# Altium schematic symbol library KSZ8463FRLI.Schlib: 1 symbol
Pins are listed as number, name and electrical type; pins without a type are passive.

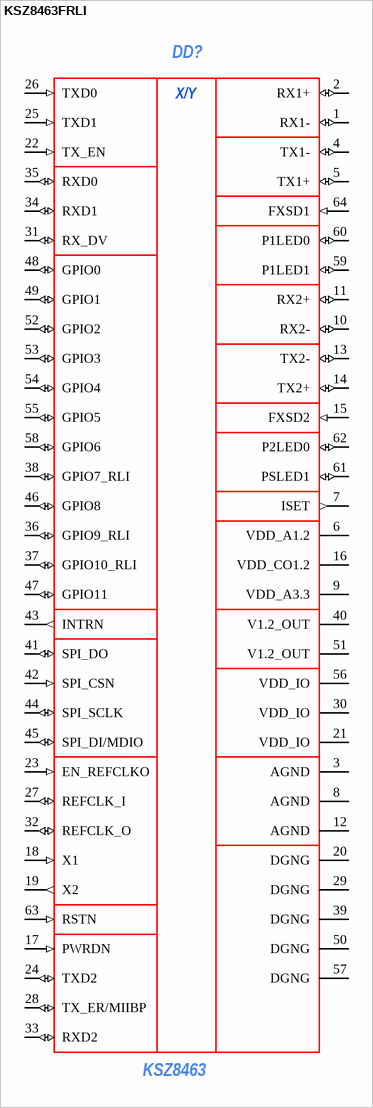
[diagram p0: symbol KSZ8463FRLI]

## KSZ8463FRLI
designator DD?, comment KSZ8463
3-Port 10/100 1588v2 Ethernet Switch with Fiber Support; ManufacturerPartNumber: KSZ8463
footprint LQFP64
pins: 1 RX1- (io), 2 RX1+ (io), 3 AGND (power), 4 TX1- (io), 5 TX1+ (io), 6 VDD_A1.2 (power), 7 ISET (out), 8 AGND (power), 9 VDD_A3.3 (power), 10 RX2- (io), 11 RX2+ (io), 12 AGND (power), 13 TX2- (io), 14 TX2+ (io), 15 FXSD2 (in), 16 VDD_CO1.2 (power), 17 PWRDN (in), 18 X1 (in), 19 X2 (out), 20 DGNG (power), 21 VDD_IO (power), 22 TX_EN (in), 23 EN_REFCLKO (in) "TXD3", 24 TXD2 (io), 25 TXD1 (in), 26 TXD0 (in), 27 REFCLK_I (io) "TX_CLK", 28 TX_ER/MIIBP (io), 29 DGNG (power), 30 VDD_IO (power), 31 RX_DV (io), 32 REFCLK_O (io) "RXD3", 33 RXD2 (io), 34 RXD1 (io), 35 RXD0 (io), 36 GPIO9_RLI (io), 37 GPIO10_RLI (io), 38 GPIO7_RLI (io), 39 DGNG (power), 40 V1.2_OUT (power), 41 SPI_DO (io), 42 SPI_CSN (in), 43 INTRN (out), 44 SPI_SCLK (io) "MDC", 45 SPI_DI/MDIO (io), 46 GPIO8 (io), 47 GPIO11 (io), 48 GPIO0 (io), 49 GPIO1 (io), 50 DGNG (power), 51 V1.2_OUT (power), 52 GPIO2 (io), 53 GPIO3 (io), 54 GPIO4 (io), 55 GPIO5 (io), 56 VDD_IO (power), 57 DGNG (power), 58 GPIO6 (io), 59 P1LED1 (io) "GPIO7_MLI", 60 P1LED0 (io), 61 PSLED1 (io) "GPIO9_MLI", 62 P2LED0 (io) "GPIO10_MLI", 63 RSTN (in), 64 FXSD1 (in)
text: X/Y